# EAGLE library part AMC1200 (library AMC1200)
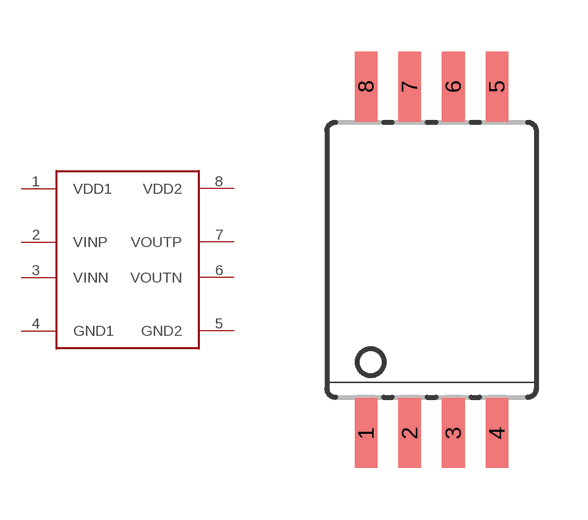
[diagram p0: symbol with the pads of SOIC8; footprint SOIC8]

Designator prefix -

## AMC1200  [SOIC8]
1  VDD1
2  VINP
3  VINN
4  GND1
5  GND2
6  VOUTN
7  VOUTP
8  VDD2

## Footprint SOIC8 (pad centres in mm)
smd 0.66 x 2.032: 1 -1.905,-5.105; 2 -0.635,-5.105; 3 0.635,-5.105; 4 1.905,-5.105; 5 1.905,4.978; 6 0.635,4.978; 7 -0.635,4.978; 8 -1.905,4.978